# EAGLE library part AS-ITM-00396 (library tinycircuits)
SENSOR RH PRESSURE TEMP VOC
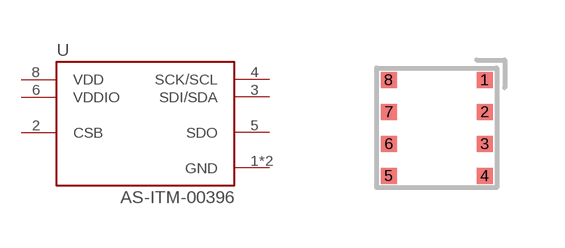
[diagram p162: symbol with the pads of BME680; footprint BME680]

Designator prefix U

## AS-ITM-00396 (PARTNO: AS-ITM-00396; VALUE: BME680)  [BME680]
1  GND
2  CSB
3  SDI/SDA
4  SCK/SCL
5  SDO
6  VDDIO
7  GND
8  VDD

## Footprint BME680 (pad centres in mm)
3mm x 3mm BME680 Footprint
smd 0.4 x 0.4: 1 1.2,1.2; 2 1.2,0.4; 3 1.2,-0.4; 4 1.2,-1.2; 5 -1.2,-1.2; 6 -1.2,-0.4; 7 -1.2,0.4; 8 -1.2,1.2